# EAGLE library part MC1488PG (library ON_Semiconductor_By_element14_Batch_1)
Quad Line EIA-232D Driver
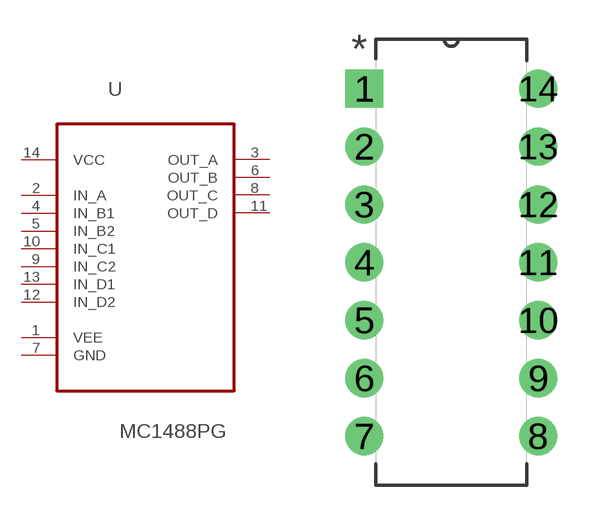
[diagram p311: symbol with the pads of DIP254P762X469-14; footprint DIP254P762X469-14]

Designator prefix U

## MC1488PG (MPN: MC1488PG; OC_FARNELL: 9664530; OC_NEWARK: 98H0659; PACKAGE: PDIP-14; SUPPLIER: On Semiconductor)  [DIP254P762X469-14]
1  VEE  pwr
2  IN_A  in
3  OUT_A  out
4  IN_B1  in
5  IN_B2  in
6  OUT_B  out
7  GND  pas
8  OUT_C  out
9  IN_C2  in
10  IN_C1  in
11  OUT_D  out
12  IN_D2  in
13  IN_D1  in
14  VCC  pwr

## Footprint DIP254P762X469-14 (pad centres in mm)
drill 1.118 square: 1 -7.62,15.24
drill 1.118: 2 -7.62,12.7; 3 -7.62,10.16; 4 -7.62,7.62; 5 -7.62,5.08; 6 -7.62,2.54; 7 -7.62,0; 8 0,0; 9 0,2.54; 10 0,5.08; 11 0,7.62; 12 0,10.16; 13 0,12.7; 14 0,15.24